# Altium schematic symbol library MI_Personal.SchLib: 995 symbols (part 5 of 12)
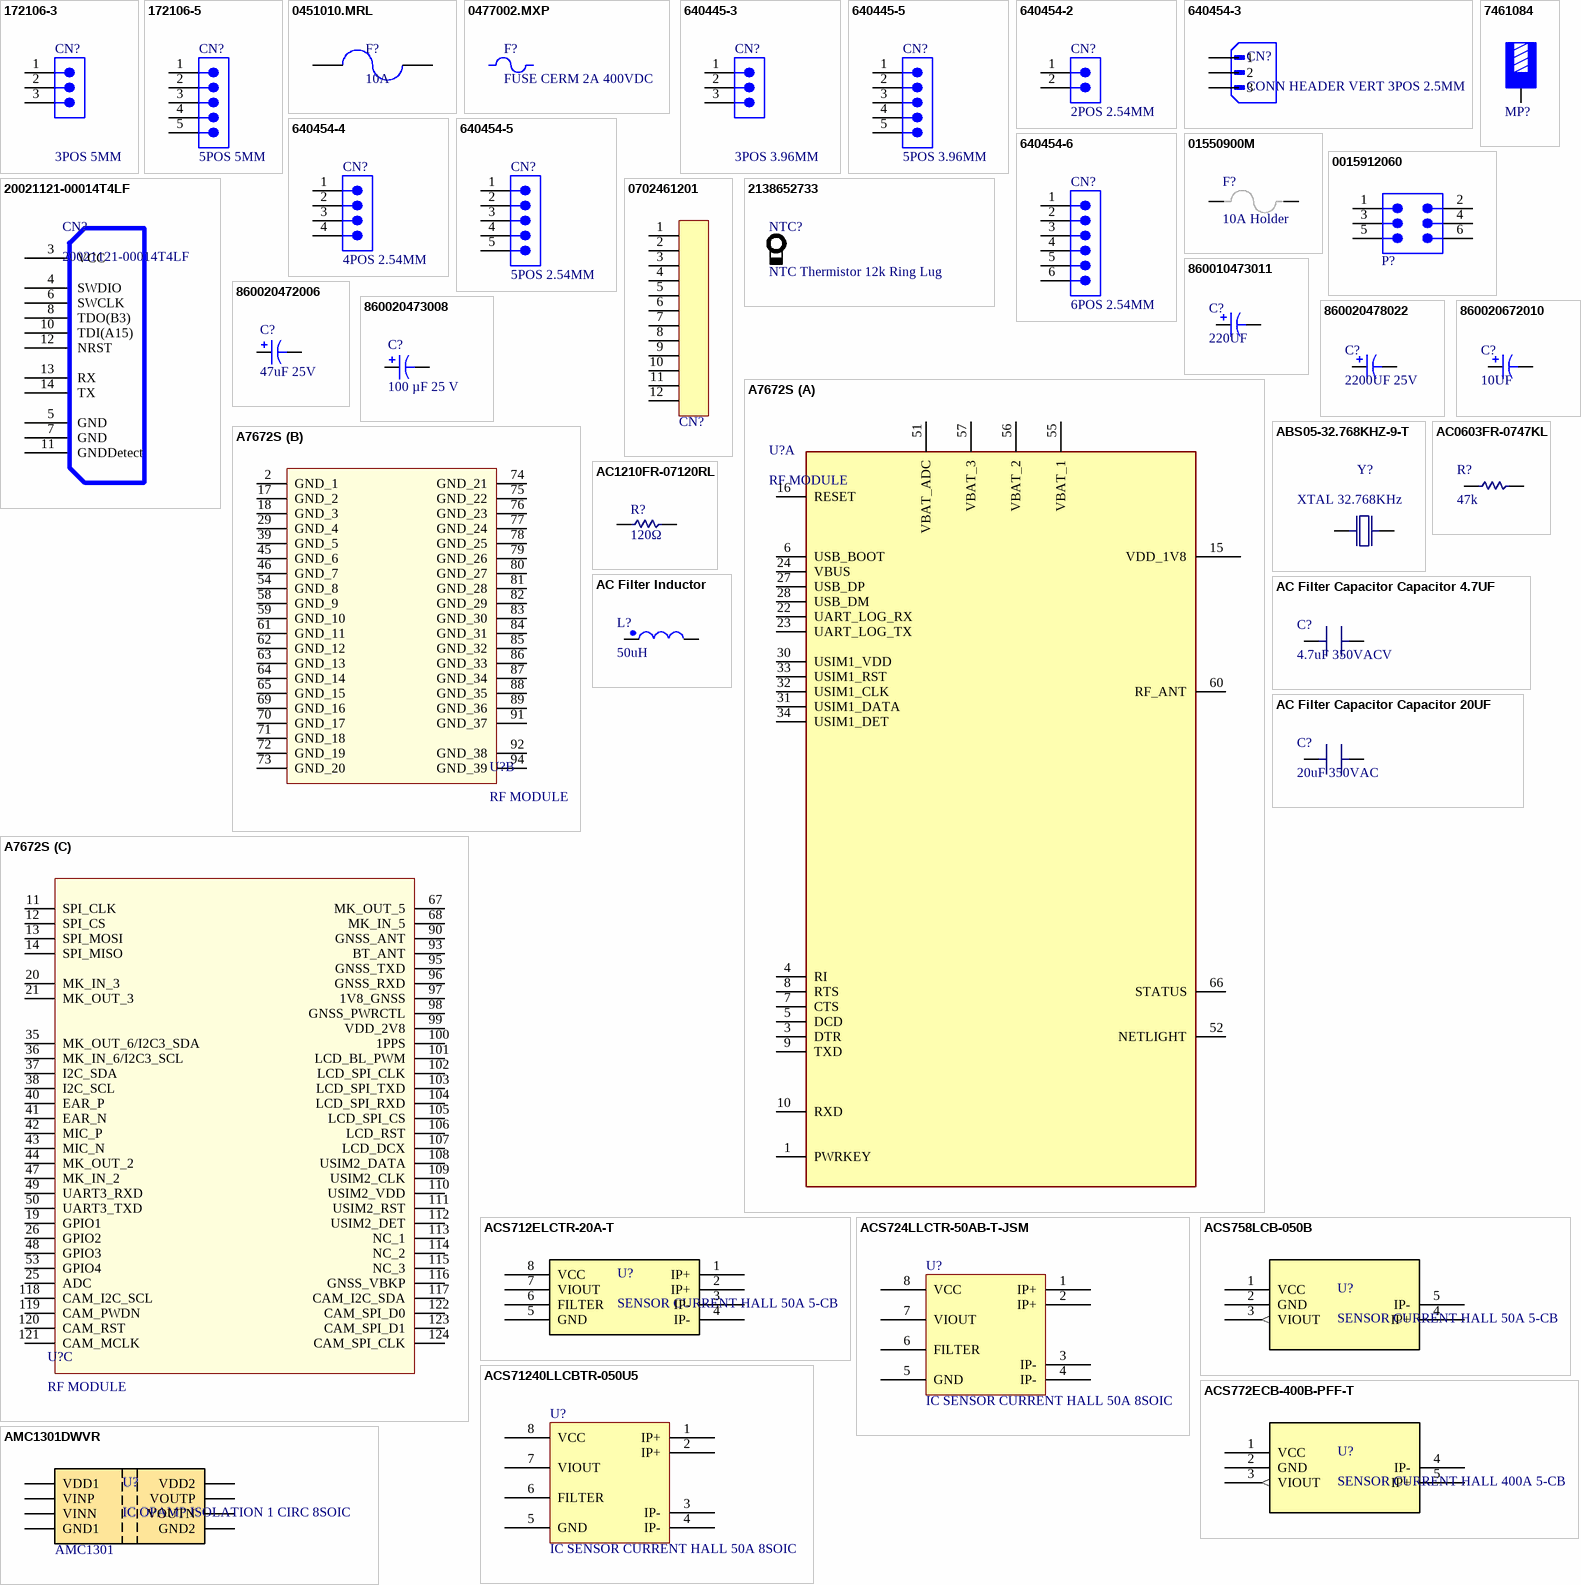
[diagram p31: symbols 172106-3 to AMC1301DWVR]

## A7672S
designator U?, comment RF MODULE
RF MODULE LTE Cat 1 Module On Module 10Mbps 700MHz/800MHz/900MHz/1700MHz/1800MHz/1900MHz/2100MHz 33dBm 3.4V to 4.2V -109dBm; Supplier 2: WORLDWAY; Supplier Part Number 2: A7672S
footprint A7672S
part A pins: 1 PWRKEY, 3 DTR, 4 RI, 5 DCD, 6 USB_BOOT, 7 CTS, 8 RTS, 9 TXD, 10 RXD, 15 VDD_1V8, 16 RESET, 22 UART_LOG_RX, 23 UART_LOG_TX, 24 VBUS, 27 USB_DP, 28 USB_DM, 30 USIM1_VDD, 31 USIM1_DATA, 32 USIM1_CLK, 33 USIM1_RST, 34 USIM1_DET, 51 VBAT_ADC, 52 NETLIGHT, 55 VBAT_1, 56 VBAT_2, 57 VBAT_3, 60 RF_ANT, 66 STATUS
part B pins: 2 GND_1, 17 GND_2, 18 GND_3, 29 GND_4, 39 GND_5, 45 GND_6, 46 GND_7, 54 GND_8, 58 GND_9, 59 GND_10, 61 GND_11, 62 GND_12, 63 GND_13, 64 GND_14, 65 GND_15, 69 GND_16, 70 GND_17, 71 GND_18, 72 GND_19, 73 GND_20, 74 GND_21, 75 GND_22, 76 GND_23, 77 GND_24, 78 GND_25, 79 GND_26, 80 GND_27, 81 GND_28, 82 GND_29, 83 GND_30, 84 GND_31, 85 GND_32, 86 GND_33, 87 GND_34, 88 GND_35, 89 GND_36, 91 GND_37, 92 GND_38, 94 GND_39
part C pins: 11 SPI_CLK, 12 SPI_CS, 13 SPI_MOSI, 14 SPI_MISO, 19 GPIO1, 20 MK_IN_3, 21 MK_OUT_3, 25 ADC, 26 GPIO2, 35 MK_OUT_6/I2C3_SDA, 36 MK_IN_6/I2C3_SCL, 37 I2C_SDA, 38 I2C_SCL, 40 EAR_P, 41 EAR_N, 42 MIC_P, 43 MIC_N, 44 MK_OUT_2, 47 MK_IN_2, 48 GPIO3, 49 UART3_RXD, 50 UART3_TXD, 53 GPIO4, 67 MK_OUT_5, 68 MK_IN_5, 90 GNSS_ANT, 93 BT_ANT, 95 GNSS_TXD, 96 GNSS_RXD, 97 1V8_GNSS, 98 GNSS_PWRCTL, 99 VDD_2V8, 100 1PPS, 101 LCD_BL_PWM, 102 LCD_SPI_CLK, 103 LCD_SPI_TXD, 104 LCD_SPI_RXD, 105 LCD_SPI_CS, 106 LCD_RST, 107 LCD_DCX, 108 USIM2_DATA, 109 USIM2_CLK, 110 USIM2_VDD, 111 USIM2_RST, 112 USIM2_DET, 113 NC_1, 114 NC_2, 115 NC_3, 116 GNSS_VBKP, 117 CAM_I2C_SDA, 118 CAM_I2C_SCL, 119 CAM_PWDN, 120 CAM_RST, 121 CAM_MCLK, 122 CAM_SPI_D0, 123 CAM_SPI_D1, 124 CAM_SPI_CLK

## ABS05-32.768KHZ-9-T
designator Y?, comment XTAL 32.768KHz
CRYSTAL 32.7680KHZ 9PF SMD 1610; Supplier 1: DigiKey; Supplier Part Number 1: 535-ABS05-32.768KHZ-9-TCT-ND; Supplier 2: LCSC; Supplier Part Number 2: C596929
footprint OSC: 1610
pins: 1 XTAL1, 2 XTAL2

## AC0603FR-0747KL
designator R?, comment 47k
RES SMD 47K OHM 1% 1/10W 0603; Supplier 1: DigiKey; Supplier Part Number 1: YAG3610CT-ND; Supplier 2: LCSC; Supplier Part Number 2: C111134; Supplier 3: Digikey; Supplier Part Number 3: P47KGCT-ND; Supplier 4: LCSC; Supplier Part Number 4: C278642
footprint RES 0603_1608 (Chip Resistor, 2-Leads, Body 1.60x0.80mm, IPC Medium Density)
pins: 1 A, 2 B

## AC1210FR-07120RL
designator R?, comment 120Ω
RES SMD 120 OHM 1% 1/2W 1210; Supplier 1: DigiKey; Supplier Part Number 1: YAG5428CT-ND; Supplier 2: LCSC; Supplier Part Number 2: C2974062
footprint RES 1210_3225 (Chip Resistor, 2-Leads, Body 3.1x2.6mm, IPC Medium Density)
pins: 1 A, 2 B

## AC Filter Capacitor Capacitor 4.7UF
designator C?, comment 4.7uF 350VACV
CAP FILM 4.7uF 10% 350VACV; Supplier 1: Made In China; Supplier Part Number 1: https://hongfarad168.en.made-in-china.com/product/PfNrvRSYhXWt/China-High-Performance-Dry-Type-DC-Link-Capacitors-for-PCB-Applications-Dpb-Power-Capacitor.html; Supplier Part Number 2: https://crecapacitor.en.made-in-china.com/product/fEgpAGRTWBcY/China-Best-Price-AC-Filter-Capacitor-for-PCB-Mount.html
footprint Custom 4.7UF 350VAC FILM CAP
pins: 1 A, 2 B

## AC Filter Capacitor Capacitor 20UF
designator C?, comment 20uF 350VAC
CAP FILM 20uF 350VAC; Supplier 1: Made In China; Supplier Part Number 1: https://crecapacitor.en.made-in-china.com/product/fEgpAGRTWBcY/China-Best-Price-AC-Filter-Capacitor-for-PCB-Mount.html
footprint Custom 20UF 350VAC FILM CAP
pins: 1 A, 2 B

## AC Filter Inductor
designator L?, comment 50uH
FIXED IND 50UH 160A 1kHz
footprint AC FILTER INDUCTOR
pins: 1 A, 2 B

## ACS712ELCTR-20A-T
designator U?, comment SENSOR CURRENT HALL 50A 5-CB
IC Current Sensor 20A 1 Channel Hall Effect Bidirectional; Supplier 1: MAKERS; Supplier Part Number 1: https://makerselectronics.com/product/acs712-20a-20a-current-sensor-smd-ic-soic-8; ComponentLink1Description: MAKERS; ComponentLink1URL: https://makerselectronics.com/product/acs712-20a-20a-current-sensor-smd-ic-soic-8
footprint SOIC-8 (SOIC - 1.75 mm max height / SMALL OUTLINE INTEGRATED CIRCUIT)
pins: 1 IP+, 2 IP+, 3 IP-, 4 IP-, 5 GND (power), 6 FILTER, 7 VIOUT (power), 8 VCC (power)

## ACS724LLCTR-50AB-T-JSM
designator U?, comment IC SENSOR CURRENT HALL 50A 8SOIC
IC Current Sensor 50A 40mV/A Bidirectional 8-SOIC (0.154", 3.90mm Width); Supplier 1: LCSC; Supplier Part Number 1: C20606860
footprint SOIC 8 ACS71240
pins: 1 IP+, 2 IP+, 3 IP-, 4 IP-, 5 GND, 6 FILTER, 7 VIOUT, 8 VCC

## ACS758LCB-050B
designator U?, comment SENSOR CURRENT HALL 50A 5-CB
IC Current Sensor 50A 1 Channel Hall Effect Bidirectional 5-CB Formed Leads, PFF; Supplier 1: RAM; Supplier Part Number 1: https://www.ram-e-shop.com/shop/acs758lcb-050b-acs758lcb-050b-ac-current-sensor-50a-7011; ComponentLink1Description: RAM; ComponentLink1URL: https://www.ram-e-shop.com/shop/acs758lcb-050b-acs758lcb-050b-ac-current-sensor-50a-7011
footprint ACS772_PFF_ALM
pins: 1 VCC (power), 2 GND (power), 3 VIOUT (out), 4 IP+, 5 IP-

## ACS772ECB-400B-PFF-T
designator U?, comment SENSOR CURRENT HALL 400A 5-CB
IC Current Sensor 400A 1 Channel Hall Effect Bidirectional 5-CB Formed Leads, PFF; Supplier 1: Digikey; Supplier Part Number 1: 620-ACS772ECB-400B-PFF-T-ND; Supplier 2: Mouser; Supplier Part Number 2: 250-772ECB400BPFFT; ComponentLink1Description: DIGIKEY; ComponentLink1URL: https://www.digikey.com/en/products/detail/allegro-microsystems/ACS772ECB-400B-PFF-T/13979025?s=N4IgTCBcDaIIIGEDKB2FYCiCBCBaALAAyF4AKAYubgCogC6AvkA; ComponentLink2Description: LCSC; ComponentLink2URL: https://www.aztechwire.com/submit-an-rfq.html?part_no=ACS772ECB-400B-PFF-T&utm_source=octopart; Supplier 3: AZTECH; Supplier Part Number 3: https://www.aztechwire.com/products/allegro-microsystems/acs772ecb-400b-pff-t?p=679b3c7465292d2c08adb6e8; Supplier 4: LCSC; Supplier Part Number 4: C44606309
footprint ACS772_PFF_ALM
pins: 1 VCC (power), 2 GND (power), 3 VIOUT (out), 4 IP-, 5 IP+

## ACS71240LLCBTR-050U5
designator U?, comment IC SENSOR CURRENT HALL 50A 8SOIC
IC Current Sensor 50A 1 Channel Hall Effect, Open Loop Unidirectional 8-SOIC (0.154", 3.90mm Width); Supplier 1: Digikey; Supplier Part Number 1: 620-2054-1-ND; Supplier 2: LCSC; Supplier Part Number 2: C2654898; Supplier 3: Mouser; Supplier Part Number 3: 250-71240LLCBTR050U5
footprint SOIC 8 ACS71240
pins: 1 IP+, 2 IP+, 3 IP-, 4 IP-, 5 GND, 6 FILTER, 7 VIOUT, 8 VCC

## AMC1301DWVR
designator U?, comment IC OPAMP ISOLATION 1 CIRC 8SOIC
IC Isolation Amplifier 1 Circuit Differential 8-SOIC; Supplier 1: DigiKey; Supplier Part Number 1: 296-44577-1-ND; Supplier 2: LCSC; Supplier Part Number 2: C190273
footprint SOIC8 AMC1200 TI
pins: 1 VDD1, 2 VINP, 3 VINN, 4 GND1, 5 GND2, 6 VOUTN, 7 VOUTP, 8 VDD2
text: AMC1301

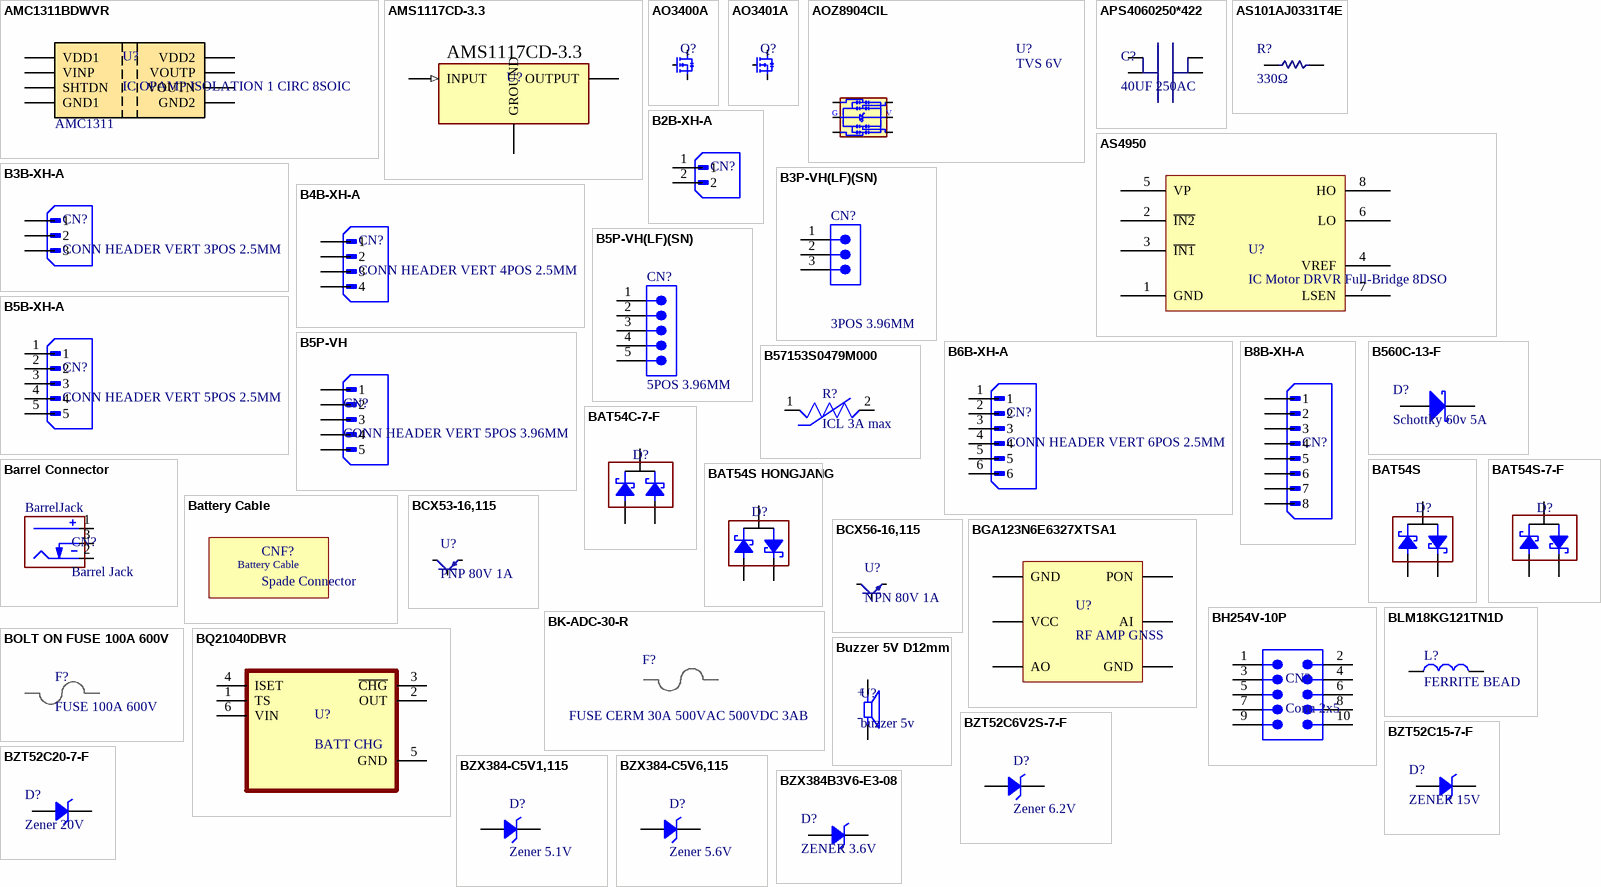
[diagram p7: symbols AMC1311BDWVR to BZX384B3V6-E3-08]

## AMC1311BDWVR
designator U?, comment IC OPAMP ISOLATION 1 CIRC 8SOIC
IC Isolation Amplifier 1 Circuit Differential 8-SOIC; Supplier 1: DigiKey; Supplier Part Number 1: 296-49549-1-ND; Supplier 2: LCSC; Supplier Part Number 2: C783598
footprint SOIC8 AMC1200 TI
pins: 1 VDD1, 2 VINP, 3 SHTDN, 4 GND1, 5 GND2, 6 VOUTN, 7 VOUTP, 8 VDD2
text: AMC1311

## AMS1117CD-3.3
designator U?, comment IC REG LINEAR 3.3V 1A TO-252  (value not drawn)
IC REG LINEAR 3.3V 1.5A TO-252; Supplier 1: MAKERS; Supplier Part Number 1: https://makerselectronics.com/product/ams1117cd-3-3-smd-fixed-15v-1a-3-3v3-3v-to-252-dropour-voltage-regulators; ComponentLink1Description: MAKERS; ComponentLink1URL: https://makerselectronics.com/product/ams1117cd-3-3-smd-fixed-15v-1a-3-3v3-3v-to-252-dropour-voltage-regulators
footprint DPACK
pins: 1 GROUND (power), 2 INPUT (in), 3 OUTPUT (power)

## AO3400A
designator Q?, comment NMOS 30V 5.7A  (value not drawn)
MOSFET N-CH 30V 5.7A SOT23-3L; Supplier 1: DigiKey; Supplier Part Number 1: 785-1000-1-ND; Supplier 2: LCSC; Supplier Part Number 2: C20917
footprint SOT23-3 (SOT23-3, BAT54, DIODES INC)
pins: 1 GATE, 2 SOURCE, 3 DRAIN

## AO3401A
designator Q?, comment PMOS 30 4A  (value not drawn)
MOSFET P-CH 30V 4A SOT23-3L; Supplier 1: DigiKey; Supplier Part Number 1: 785-1001-1-ND; Supplier 2: LCSC; Supplier Part Number 2: C15127
footprint SOT23-3 (SOT23-3, BAT54, DIODES INC)
pins: 1 GATE, 2 SOURCE, 3 DRAIN

## AOZ8904CIL
designator U?, comment TVS 6V
DIODE TVS 5.25VWM 6VC SOT23-6; Supplier 1: LCSC; Supplier Part Number 1: C2649893
footprint SOT23-6 (Footprint not found)
pins: 1, 2, 3, 4, 5, 6
text: G; V

## APS4060250*422
designator C?, comment 40UF 250AC
CAP FILM 40UF 250VAC; Supplier 1: Made In China; Supplier Part Number 1: https://crecapacitor.en.made-in-china.com/product/fEgpAGRTWBcY/China-Best-Price-AC-Filter-Capacitor-for-PCB-Mount.html
footprint APS4060250*422 (FILM CAP 4 PIN)
pins: 1 A, 2 B, 3 A, 4 B

## AS101AJ0331T4E
designator R?, comment 330Ω
RES SMD 330Ω OHM 5% 1.5W 2010; Supplier 2: LCSC; Supplier Part Number 2: C2770371
footprint RES 2010_3613 (Chip Resistor, 2-Leads, Body 5.00x2.54mm, IPC Medium Density)
pins: 1 A, 2 B

## AS4950
designator U?, comment IC Motor DRVR Full-Bridge 8DSO
Supplier 1: UGE; Supplier Part Number 1: https://uge-one.com/product/at4950-full-bridge-dmos-pwm-dc-motor-driver-controller-2a-30v-esop8/; ComponentLink1Description: UGE; ComponentLink1URL: https://uge-one.com/product/at4950-full-bridge-dmos-pwm-dc-motor-driver-controller-2a-30v-esop8/
footprint SOP-8 Thermal Pad AS4950 (SOP, 8-Leads, Body 4.90x3.90mm, Pitch 1.27mm, Thermal Pad 2.28x2.28mm, IPC Medium Density)
pins: 1 GND, 2 ~{IN2}, 3 ~{IN1}, 4 VREF, 5 VP "V12", 6 LO, 7 LSEN, 8 HO

## B2B-XH-A
designator CN?, comment CONN HEADER VERT 2POS 2.5MM  (value not drawn)
Supplier 1: Digikey; Supplier Part Number 1: 455-B2B-XH-A-ND; Supplier 2: LCSC; Supplier Part Number 2: C158012; Supplier 3: Digikey; Supplier Part Number 3: 2057-25SH-B-02-TS-ND; Supplier 4: LCSC; Supplier Part Number 4: C20079
footprint JST_B2B-XH-A
pins: 1, 2

## B3B-XH-A
designator CN?, comment CONN HEADER VERT 3POS 2.5MM
Supplier 1: Digikey; Supplier Part Number 1: 455-2248-ND; Supplier 2: LCSC; Supplier Part Number 2: C144394; Supplier 3: Digikey; Supplier Part Number 3: 2057-25SH-B-03-TS-ND; Supplier 4: LCSC; Supplier Part Number 4: C2908601
footprint JST_B3B-XH-A
pins: 1, 2, 3

## B3P-VH(LF)(SN)
designator CN?, comment 3POS 3.96MM
CONN HEADER VERT 3POS 3.96MM; Supplier 1: LCSC; Supplier Part Number 1: C160316
footprint JST_B3P-VH
pins: 1, 2, 3

## B4B-XH-A
designator CN?, comment CONN HEADER VERT 4POS 2.5MM
Supplier 1: Digikey; Supplier Part Number 1: 455-B4B-XH-A-ND; Supplier 2: LCSC; Supplier Part Number 2: C144395; Supplier 3: Digikey; Supplier Part Number 3: 2057-25SH-B-04-TS-ND; Supplier 4: LCSC; Supplier Part Number 4: C2908602
footprint JST_B4B-XH-A
pins: 1, 2, 3, 4

## B5B-XH-A
designator CN?, comment CONN HEADER VERT 5POS 2.5MM
Connector Header Through Hole 5 position 0.098 (2.50mm); ComponentLink1Description: DIGIKEY; ComponentLink1URL: https://www.digikey.com/en/products/detail/jst-sales-america-inc/B5B-XH-A/1530483; ComponentLink2Description: LCSC; ComponentLink2URL: https://www.lcsc.com/product-detail/Wire-To-Board-Connector_JST-B5B-XH-AM-LF-SN_C161872.html; Supplier 1: Digikey; Supplier Part Number 1: 455-B5B-XH-A-ND; Supplier 2: LCSC; Supplier Part Number 2: C161872; Supplier 3: LCSC; Supplier Part Number 3: C2318; Supplier 4: LCSC; Supplier Part Number 4: C2908603
footprint JST_B5B-XH-A
pins: 1, 2, 3, 4, 5

## B5P-VH
designator CN?, comment CONN HEADER VERT 5POS 3.96MM
Supplier 1: Digikey; Supplier Part Number 1: 455-B5P-VH-ND; Supplier 2: LCSC; Supplier Part Number 2: C160318; Supplier 3: Digikey; Supplier Part Number 3: WM9819-ND; Supplier 4: LCSC; Supplier Part Number 4: C19170942
footprint JST_B5P-VH
pins: 1, 2, 3, 4, 5

## B5P-VH(LF)(SN)
designator CN?, comment 5POS 3.96MM
CONN HEADER VERT 5POS 3.96MM; Supplier 1: LCSC; Supplier Part Number 1: C160318
footprint JST_B5P-VH
pins: 1, 2, 3, 4, 5

## B6B-XH-A
designator CN?, comment CONN HEADER VERT 6POS 2.5MM
Supplier 1: Digikey; Supplier Part Number 1: 455-B6B-XH-A-ND; Supplier 2: LCSC; Supplier Part Number 2: C144397; Supplier 3: Digikey; Supplier Part Number 3: 2057-25SH-B-06-TS-ND; Supplier 4: LCSC; Supplier Part Number 4: C2908604
footprint JST_B6B-XH-A
pins: 1, 2, 3, 4, 5, 6

## B8B-XH-A
designator CN?, comment CONN HEADER VERT 8POS 2.5MM  (value not drawn)
Supplier 1: Digikey; Supplier Part Number 1: 455-B8B-XH-A-ND; Supplier 2: LCSC; Supplier Part Number 2: C157972; Supplier 3: Digikey; Supplier Part Number 3: 2057-25SH-B-08-TS-ND; Supplier 4: LCSC; Supplier Part Number 4: C18077839
footprint JST_B8B-XH-A
pins: 1, 2, 3, 4, 5, 6, 7, 8

## B560C-13-F
designator D?, comment Schottky 60v 5A
DIODE SCHOTTKY 60V 5A SMC; Supplier 1: Digikey; Supplier Part Number 1: B560C-FDICT-ND; Supplier 2: LCSC; Supplier Part Number 2: C85100; Supplier 3: Digikey; Supplier Part Number 3: 497-8487-1-ND; Supplier 4: LCSC; Supplier Part Number 4: C6807784
footprint DO214AB SMC (Molded Diode, 2-Leads, Body 6.85x5.90mm, IPC Medium Density)
pins: 1 A, 2 K

## B57153S0479M000
designator R?, comment ICL 3A max
RES ICL 4.7Ω 3A max NTC P=5mm; Supplier 1: LCSC; Supplier Part Number 1: C3760689; ComponentLink1Description: UGE; ComponentLink1URL: https://uge-one.com/product/ntc-inrush-current-limiting-thermistor-10d-5/
footprint NTC CURRENT LIMITING P=5mm
pins: 1, 2

## Barrel Connector
designator CN?, comment Barrel Jack
CONN BARREL JACK; Supplier 1: MAKERS; Supplier Part Number 1: https://makerselectronics.com/product/dc-power-jack-female-socket-connector-5-5x2-1mm; ComponentLink1Description: MAKERS; ComponentLink1URL: https://makerselectronics.com/product/dc-power-jack-female-socket-connector-5-5x2-1mm
footprint GCT_DCJ200-10-A-XX-K_REVA
footprint GCT_DCJ250-10-A-XX-X_REVA
pins: 1 Centre (power), 2 Outer (power), 3 SW (power)
text: BarrelJack

## BAT54C-7-F
designator D?, comment Diode Array 1 Pair Common Cathode 30 V 200mA Surface Mount TO-236-3, SC-59, SOT-23-3  (value not drawn)
DIODE ARR SCHOTT 30V 200MA SOT23; Supplier 1: DigiKey; Supplier Part Number 1: BAT54C-FDICT-ND; Supplier 2: LCSC; Supplier Part Number 2: C134405; Supplier 3: Digikey; Supplier Part Number 3: 1727-2902-1-ND; Supplier 4: LCSC; Supplier Part Number 4: C37704
footprint SOT23-3
pins: 1 A1, 2 A2, 3 C

## BAT54S
designator D?, comment Diode Array 1 Pair Common Cathode 30 V 200mA Surface Mount TO-236-3, SC-59, SOT-23-3  (value not drawn)
DIODE ARR SCHOTT 30V 200MA SOT23; Supplier 1: MAKERS; Supplier Part Number 1: https://makerselectronics.com/product/bat54s-kl4-30v-dual-1v100ma-100ma-sot-23-schottky-barrier-diodes-sbd-smd; ComponentLink1Description: MAKERS; ComponentLink1URL: https://makerselectronics.com/product/bat54s-kl4-30v-dual-1v100ma-100ma-sot-23-schottky-barrier-diodes-sbd-smd
footprint SOT23-3
pins: 1 A1, 2 A2, 3 C

## BAT54S HONGJANG
designator D?, comment Diode Array 1 Pair Common Cathode 30 V 200mA Surface Mount TO-236-3, SC-59, SOT-23-3  (value not drawn)
DIODE JLC ARR SCHOTT 30V 200MA SOT23; Supplier 1: LCSC; Supplier Part Number 1: C7420333
footprint SOT23-3
pins: 1 A1, 2 A2, 3 C

## BAT54S-7-F
designator D?, comment Diode Array 1 Pair Common Cathode 30 V 200mA Surface Mount TO-236-3, SC-59, SOT-23-3  (value not drawn)
DIODE ARR SCHOTT 30V 200MA SOT23; Supplier 1: Digikey; Supplier Part Number 1: BAT54S-FDIDKR-ND; Supplier 2: LCSC; Supplier Part Number 2: C83574; Supplier 3: Digikey; Supplier Part Number 3: 1727-2904-1-ND; Supplier 4: LCSC; Supplier Part Number 4: C47546
footprint SOT23-3
pins: 1 A1, 2 A2, 3 C

## Battery Cable
designator CNF?, comment Spade Connector  (mechanical)
MECH Battery Connection Cable 10AWG (Spade Type Connector Female on Both-Side); Supplier 1: Makers; Supplier Part Number 1: https://makerselectronics.com/product/battery-connection-cable-10awg-spade-type-connector-female-on-both-side; ComponentLink1Description: Makers; ComponentLink1URL: https://makerselectronics.com/product/battery-connection-cable-10awg-spade-type-connector-female-on-both-side

## BCX53-16,115
designator U?, comment PNP 80V 1A
TRANS PNP 80V 1A SOT-89; Supplier 1: Digikey; Supplier Part Number 1: 1727-2929-1-ND; Supplier 2: LCSC; Supplier Part Number 2: C47787; Supplier 3: Digikey; Supplier Part Number 3: BCX5316CT-ND; Supplier 4: LCSC; Supplier Part Number 4: C110489
footprint SOT89 (SOT89, 3-Leads, Body 4.50x2.50mm, Pitch 1.50mm, Lead Span 4.1mm, IPC Medium Density)
pins: 1 B, 2 E, 3 C

## BCX56-16,115
designator U?, comment NPN 80V 1A
TRANS NPN 80V 1A SOT-89; Supplier 1: Digikey; Supplier Part Number 1: 1727-2930-1-ND; Supplier 2: LCSC; Supplier Part Number 2: C100026; Supplier 3: Digikey; Supplier Part Number 3: BCX5616QTADICT-ND; Supplier 4: LCSC; Supplier Part Number 4: C526478
footprint SOT89 (SOT89, 3-Leads, Body 4.50x2.50mm, Pitch 1.50mm, Lead Span 4.1mm, IPC Medium Density)
pins: 1 B, 2 E, 3 C

## BGA123N6E6327XTSA1
designator U?, comment RF AMP GNSS
RF IC AMP Beidou, Galileo, GLONASS, GPS 1.55GHz ~ 1.615GHz PG-TSNP-6-2; Supplier 1: WORLDWAY; Supplier Part Number 1: BGA123N6E6327XTSA1; Supplier 2: LCSC; Supplier Part Number 2: C3191830
footprint PG-TSNP-6-2
pins: 1 GND, 2 VCC, 3 AO, 4 GND, 5 AI, 6 PON

## BH254V-10P
designator CN?, comment Conn 2x5
CONN HEADER VERT 10POS 2.5MM IDC; Supplier 1: LCSC; Supplier Part Number 1: C492442; ComponentLink1Description: RAM; ComponentLink1URL: https://www.ram-e-shop.com/shop/fc10-pcb-idc10-male-polarized-fc10-pcb-5991
footprint IDC 2X5 (10 pins, straight, gold plating)
pins: 1, 2, 3, 4, 5, 6, 7, 8, 9, 10

## BK-ADC-30-R
designator F?, comment FUSE CERM 30A 500VAC 500VDC 3AB  (mechanical)
Supplier 1: Digikey; Supplier Part Number 1: 283-BK-ADC-30-R-ND; Supplier 2: Mouser; Supplier Part Number 2: 576-0505030.MXP; Supplier 3: Made In China; Supplier Part Number 3: https://frsidq.en.made-in-china.com/product/zdoTGaijghAD/China-DC-Energy-Storage-Fast-Fuse-with-Fuse-Base-for-Low-Current-Protection-Rated-500V-2A-100A.html?pv_id=1ihutq0pbfaf&faw_id=1ihutqc4l824

## BLM18KG121TN1D
designator L?, comment FERRITE BEAD
FERRITE BEAD 120 OHM 0603 1LN; Supplier 1: Digikey; Supplier Part Number 1: 490-5254-1-ND; Supplier 2: LCSC; Supplier Part Number 2: C85831; Supplier 3: Digikey; Supplier Part Number 3: 490-3996-1-ND; Supplier 4: LCSC; Supplier Part Number 4: C113030
footprint FER 0603_1608 (Chip Ferrite, 2-Leads, Body 1.60x0.80mm, IPC Medium Density)
pins: 1 A, 2 B

## BOLT ON FUSE 100A 600V
designator F?, comment FUSE 100A 600V  (mechanical)

## BQ21040DBVR
designator U?, comment BATT CHG
IC BATT CHG LI-ION 1CELL SOT23-6; Supplier 1: DigiKey; Supplier Part Number 1: 296-47315-1-ND; Supplier 2: LCSC; Supplier Part Number 2: C202311
footprint SOT23-6 TI
pins: 1 TS, 2 OUT, 3 ~{CHG}, 4 ISET, 5 GND, 6 VIN

## Buzzer 5V D12mm
designator U?, comment buzzer 5v
IC BUZZER MAGNETIC 5V 12.00MM TH 85dB; Supplier 1: DigiKey; Supplier Part Number 1: 433-1028-ND; Supplier 2: LCSC; Supplier Part Number 2: C96093; ComponentLink1Description: MAKERS; ComponentLink1URL: https://makerselectronics.com/product/magnetic-buzzer-5v-12mm-2-pin/
footprint BUZZER D12mm
pins: N, P
text: +; -

## BZT52C6V2S-7-F
designator D?, comment Zener 6.2V
DIODE ZENER 6.2V 200MW SOD323; Supplier 1: Digikey; Supplier Part Number 1: BZT52C6V2S-FDICT-ND; Supplier 2: LCSC; Supplier Part Number 2: C177018; Supplier 3: Digikey; Supplier Part Number 3: MM3Z6V2ST1GOSCT-ND; Supplier 4: LCSC; Supplier Part Number 4: C603321
footprint SOD 323 (SOD, 2-Leads, Body 1.25x2.50mm, IPC Medium Density)
pins: 1, 2

## BZT52C15-7-F
designator D?, comment ZENER 15V
DIODE ZENER 15V 500MW SOD123; Supplier 1: Digikey; Supplier Part Number 1: BZT52C15-FDICT-ND; Supplier 2: LCSC; Supplier Part Number 2: C177014; Supplier 3: Digikey; Supplier Part Number 3: MMSZ5245B-TPMSCT-ND; Supplier 4: LCSC; Supplier Part Number 4: C727006
footprint SOD-123 (SOD, 2-Leads, Body 1.55x3.70mm, IPC Medium Density)
pins: 1, 2

## BZT52C20-7-F
designator D?, comment Zener 20V
DIODE ZENER 20V 500MW SOD123; Supplier 1: Digikey; Supplier Part Number 1: BZT52C20-FDICT-ND; Supplier 2: LCSC; Supplier Part Number 2: C260890; Supplier 3: Digikey; Supplier Part Number 3: MMSZ5250BT1GOSCT-ND; Supplier 4: LCSC; Supplier Part Number 4: C94386
footprint SOD-123 (SOD, 2-Leads, Body 1.55x3.70mm, IPC Medium Density)
pins: 1, 2

## BZX384-C5V1,115
designator D?, comment Zener 5.1V
DIODE ZENER  5.1 V 300 mW ±5% Surface Mount SOD-323; Supplier 1: Digikey; Supplier Part Number 1: 1727-6230-1-ND; Supplier 2: LCSC; Supplier Part Number 2: C72346; Supplier 3: Digikey; Supplier Part Number 3: MM3Z5V1ST1GOSCT-ND; Supplier 4: LCSC; Supplier Part Number 4: C236206
footprint SOD 323 (SOD, 2-Leads, Body 1.25x2.50mm, IPC Medium Density)
pins: 1, 2

## BZX384-C5V6,115
designator D?, comment Zener 5.6V
DIODE ZENER 5.6V 300MW SOD323; Supplier 1: Digikey; Supplier Part Number 1: 1727-4993-1-ND; Supplier 2: LCSC; Supplier Part Number 2: C454977; Supplier 3: Digikey; Supplier Part Number 3: MM3Z5V6ST1GOSCT-ND; Supplier 4: LCSC; Supplier Part Number 4: C193904
footprint SOD-323 (SOD, 2-Leads, Body 1.25x2.50mm, IPC Medium Density)
pins: 1, 2

## BZX384B3V6-E3-08
designator D?, comment ZENER 3.6V
DIODE ZENER 3.6V 200MW SOD323; Supplier 1: Digikey; Supplier Part Number 1: BZX384B3V6-E3-08GICT-ND; Supplier 2: LCSC; Supplier Part Number 2: C5358847; Supplier 3: Digikey; Supplier Part Number 3: BZT52C3V6S-FDICT-ND; Supplier 4: LCSC; Supplier Part Number 4: C306657
footprint SOD 323 (SOD, 2-Leads, Body 1.25x2.50mm, IPC Medium Density)
pins: 1, 2

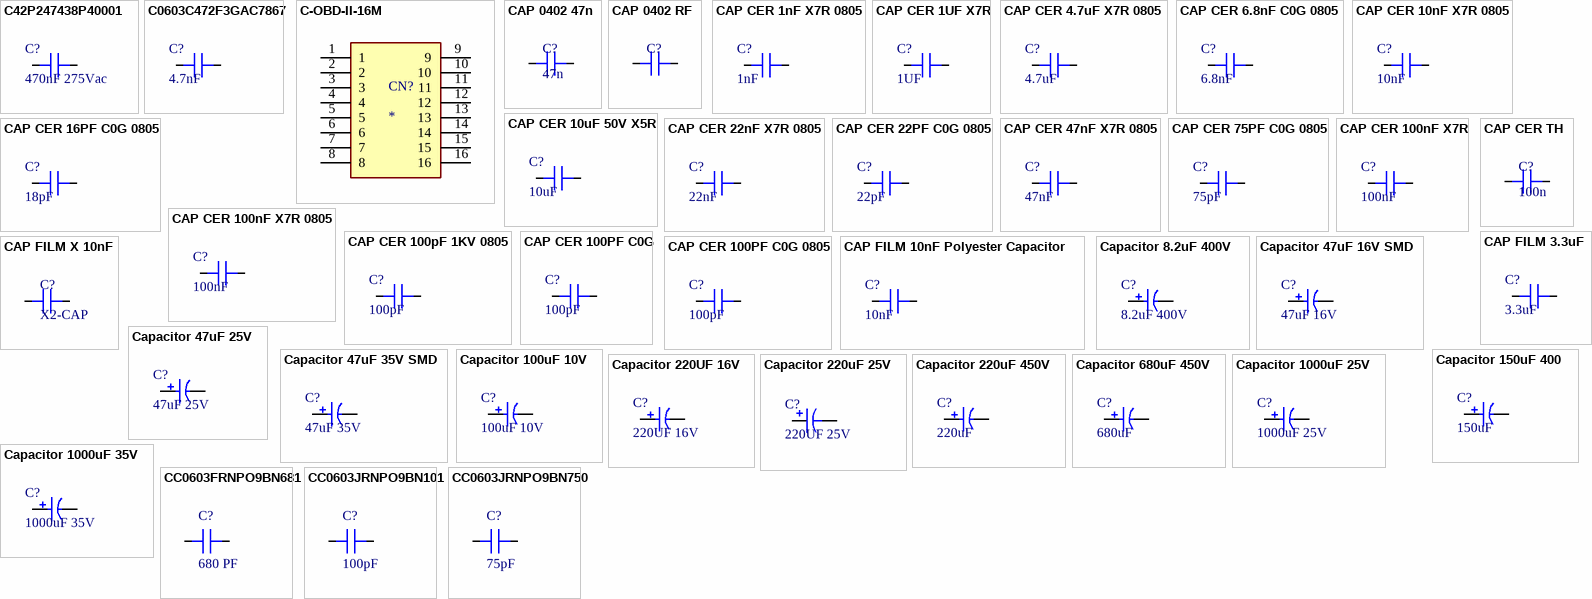
[diagram p8: symbols C42P247438P40001 to CC0603JRNPO9BN750]

## C42P247438P40001
designator C?, comment 470nF 275Vac
CAP FILM SAFETY 470nF ±10% 275V TH; Supplier 1: LCSC; Supplier Part Number 1: C46638871
footprint CAP FILM P = 10mm 13*15*8
pins: 1, 2

## C0603C472F3GAC7867
designator C?, comment 4.7nF
CAP CER 4700PF 25V C0G/NP0 0603  ±1%; Supplier 1: Digikey; Supplier Part Number 1: 399-C0603C472F3GACTUCT-ND; Supplier 2: LCSC; Supplier Part Number 2: C695387; Supplier 3: Digikey; Supplier Part Number 3: 490-9669-1-ND; Supplier 4: LCSC; Supplier Part Number 4: C85980
footprint CAP 0603_1608 (Chip Capacitor, 2-Leads, Body 1.60x0.80mm, IPC Medium Density)
pins: 1, 2

## C-OBD-II-16M
designator CN?
CONN OBD II 16pin 90 Degree Angle Male Plug Connector
footprint OBD-II-16M
pins: 1, 2, 3, 4, 5, 6, 7, 8, 9, 10, 11, 12, 13, 14, 15, 16

## CAP 0402 47n
designator C?, comment 47n
CAP CER 0.047UF 50V X7R 0402
footprint CAP 0402_1005 RF (Chip Capacitor, 2-Leads, Body 1.02x0.51mm, IPC High Density)
pins: 1, 2

## CAP 0402 RF
designator C?
DEFAULT
footprint CAP 0402_1005 RF (Chip Capacitor, 2-Leads, Body 1.02x0.51mm, IPC High Density)
pins: 1, 2

## CAP CER 1nF X7R 0805
designator C?, comment 1nF
CAP CER 1nF X7R 0805; Supplier 1: Makers; Supplier Part Number 1: https://makerselectronics.com/product/multilayer-ceramic-capacitors-mlcc-smd-smt-1nf-%c2%b110-50v-0805/; ComponentLink1Description: Makers; ComponentLink1URL: https://makerselectronics.com/product/multilayer-ceramic-capacitors-mlcc-smd-smt-1nf-%c2%b110-50v-0805/
footprint CAP 0805_2012 (Chip Capacitor, 2-Leads, Body 2.00x1.20mm, IPC Medium Density)
pins: 1, 2

## CAP CER 1UF X7R
designator C?, comment 1UF
CAP CER 1UF X7R 1206; Supplier 1: Makers; Supplier Part Number 1: https://makerselectronics.com/product/multilayer-ceramic-capacitors-mlcc-smd-smt-1uf-%c2%b110-50v-x7r-1206; ComponentLink1Description: Makers; ComponentLink1URL: https://makerselectronics.com/product/multilayer-ceramic-capacitors-mlcc-smd-smt-1uf-%c2%b110-50v-x7r-1206
footprint CAP 1206_3216 (Chip Capacitor, 2-Leads, Body 3.25x1.60mm, IPC Medium Density)
pins: 1, 2

## CAP CER 4.7uF X7R 0805
designator C?, comment 4.7uF
CAP CER 4.7uF X7R 0805
footprint CAP 0805_2012 (Chip Capacitor, 2-Leads, Body 2.00x1.20mm, IPC Medium Density)
pins: 1, 2

## CAP CER 6.8nF C0G 0805
designator C?, comment 6.8nF
CAP CER 6.8nF C0G 0805; Supplier 1: DigiKey; Supplier Part Number 1: 490-1638-1-ND; Supplier 2: LCSC; Supplier Part Number 2: C77068
footprint CAP 0805_2012 (Chip Capacitor, 2-Leads, Body 2.00x1.20mm, IPC Medium Density)
pins: 1, 2

## CAP CER 10nF X7R 0805
designator C?, comment 10nF
CAP CER 10nF X7R 0805; Supplier 1: Makers; Supplier Part Number 1: https://makerselectronics.com/product/multilayer-ceramic-capacitors-mlcc-smd-smt-10nf-%c2%b110-50v-0805/; ComponentLink1Description: Makers; ComponentLink1URL: https://makerselectronics.com/product/multilayer-ceramic-capacitors-mlcc-smd-smt-10nf-%c2%b110-50v-0805/
footprint CAP 0805_2012 (Chip Capacitor, 2-Leads, Body 2.00x1.20mm, IPC Medium Density)
pins: 1, 2

## CAP CER 10uF 50V X5R
designator C?, comment 10uF
CAP CER 10uF 50V X5R 1206; Supplier 1: Makers; Supplier Part Number 1: https://makerselectronics.com/product/multilayer-ceramic-capacitors-mlcc-smd-smt-10uf-50v-x5r-%c2%b110-1206; ComponentLink1Description: Makers; ComponentLink1URL: https://makerselectronics.com/product/multilayer-ceramic-capacitors-mlcc-smd-smt-10uf-50v-x5r-%c2%b110-1206
footprint CAP 1206_3216 (Chip Capacitor, 2-Leads, Body 3.25x1.60mm, IPC Medium Density)
pins: 1, 2

## CAP CER 16PF C0G 0805
designator C?, comment 18pF
CAP CER 18pF C0G 0805
footprint CAP 0805_2012 (Chip Capacitor, 2-Leads, Body 2.00x1.20mm, IPC Medium Density)
pins: 1, 2

## CAP CER 22nF X7R 0805
designator C?, comment 22nF
CAP CER 22nF X7R 0805
footprint CAP 0805_2012 (Chip Capacitor, 2-Leads, Body 2.00x1.20mm, IPC Medium Density)
pins: 1, 2

## CAP CER 22PF C0G 0805
designator C?, comment 22pF
CAP CER 22pF C0G 0805; Supplier 1: Makers; Supplier Part Number 1: https://makerselectronics.com/product/multilayer-ceramic-capacitors-mlcc-smd-smt-22pf-%c2%b11-50v-0805; ComponentLink1Description: Makers; ComponentLink1URL: https://makerselectronics.com/product/multilayer-ceramic-capacitors-mlcc-smd-smt-22pf-%c2%b11-50v-0805
footprint CAP 0805_2012 (Chip Capacitor, 2-Leads, Body 2.00x1.20mm, IPC Medium Density)
pins: 1, 2

## CAP CER 47nF X7R 0805
designator C?, comment 47nF
CAP CER 47nF X7R 0805
footprint CAP 0805_2012 (Chip Capacitor, 2-Leads, Body 2.00x1.20mm, IPC Medium Density)
pins: 1, 2

## CAP CER 75PF C0G 0805
designator C?, comment 75pF
CAP CER 75pF C0G 0805
footprint CAP 0805_2012 (Chip Capacitor, 2-Leads, Body 2.00x1.20mm, IPC Medium Density)
pins: 1, 2

## CAP CER 100nF X7R
designator C?, comment 100nF
CAP CER 100nF X7R 1206; Supplier 1: Makers; Supplier Part Number 1: https://makerselectronics.com/product/multilayer-ceramic-capacitors-mlcc-smd-smt-100nf-%c2%b110-100v-x7r-1206; ComponentLink1Description: Makers; ComponentLink1URL: https://makerselectronics.com/product/multilayer-ceramic-capacitors-mlcc-smd-smt-100nf-%c2%b110-100v-x7r-1206
footprint CAP 1206_3216 (Chip Capacitor, 2-Leads, Body 3.25x1.60mm, IPC Medium Density)
pins: 1, 2

## CAP CER 100nF X7R 0805
designator C?, comment 100nF
CAP CER 100nF X7R 0805; Supplier 1: Makers; Supplier Part Number 1: https://makerselectronics.com/product/multilayer-ceramic-capacitors-mlcc-smd-smt-100nf-%c2%b110-100v-x7r-0805; ComponentLink1Description: Makers; ComponentLink1URL: https://makerselectronics.com/product/multilayer-ceramic-capacitors-mlcc-smd-smt-100nf-%c2%b110-100v-x7r-0805
footprint CAP 0805_2012 (Chip Capacitor, 2-Leads, Body 2.00x1.20mm, IPC Medium Density)
pins: 1, 2

## CAP CER 100pF 1KV 0805
designator C?, comment 100pF
CAP CER 100pF ±5% 1KV 0805; Supplier 1: Makers; Supplier Part Number 1: https://makerselectronics.com/product/multilayer-ceramic-capacitors-mlcc-smd-smt-100pf-%c2%b15-1kv-0805; ComponentLink1Description: Makers; ComponentLink1URL: https://makerselectronics.com/product/multilayer-ceramic-capacitors-mlcc-smd-smt-100pf-%c2%b15-1kv-0805
footprint CAP 0805_2012 (Chip Capacitor, 2-Leads, Body 2.00x1.20mm, IPC Medium Density)
pins: 1, 2

## CAP CER 100PF C0G
designator C?, comment 100pF
CAP CER 100pF C0G 1206; Supplier 1: Makers; Supplier Part Number 1: https://makerselectronics.com/product/multilayer-ceramic-capacitors-mlcc-smd-smt-100pf-%c2%b15-50v-1206; ComponentLink1Description: Makers; ComponentLink1URL: https://makerselectronics.com/product/multilayer-ceramic-capacitors-mlcc-smd-smt-100pf-%c2%b15-50v-1206
footprint CAP 1206_3216 (Chip Capacitor, 2-Leads, Body 3.25x1.60mm, IPC Medium Density)
pins: 1, 2

## CAP CER 100PF C0G 0805
designator C?, comment 100pF
CAP CER 100pF C0G 0805; Supplier 1: Makers; Supplier Part Number 1: https://makerselectronics.com/product/multilayer-ceramic-capacitors-mlcc-smd-smt-100pf-%c2%b110-50v-0805; ComponentLink1Description: Makers; ComponentLink1URL: https://makerselectronics.com/product/multilayer-ceramic-capacitors-mlcc-smd-smt-100pf-%c2%b110-50v-0805
footprint CAP 0805_2012 (Chip Capacitor, 2-Leads, Body 2.00x1.20mm, IPC Medium Density)
pins: 1, 2

## CAP CER TH
designator C?, comment 100n
CAP TH CER
footprint CAP TH CER 2.54mm
pins: 1, 2

## CAP FILM 3.3uF
designator C?, comment 3.3uF
CAP FILM P = 25mm; Supplier 1: MAKERS; Supplier Part Number 1: https://makerselectronics.com/product/polyester-capacitor-3-3uf-400v; ComponentLink1Description: MAKERS; ComponentLink1URL: https://makerselectronics.com/product/polyester-capacitor-3-3uf-400v
footprint FILM CAP 25mm Pitch
pins: 1, 2

## CAP FILM 10nF Polyester Capacitor
designator C?, comment 10nF
CAP FILM 10nF Polyester Capacitor; Supplier 1: MAKERS; Supplier Part Number 1: https://makerselectronics.com/product/polyester-capacitor-10nf-100v/; ComponentLink1Description: MAKERS; ComponentLink1URL: https://makerselectronics.com/product/polyester-capacitor-10nf-100v/
footprint FILM Capacitor 10nF 100V
pins: 1, 2

## CAP FILM X 10nF
designator C?, comment X2-CAP
CAP X2 10nF 275V 15mm Through Hole; Supplier 1: MAKERS; Supplier Part Number 1: https://makerselectronics.com/product/suppression-capacitor-10nf-275v-15mm-through-hole; ComponentLink1Description: MAKERS; ComponentLink1URL: https://makerselectronics.com/product/suppression-capacitor-10nf-275v-15mm-through-hole
footprint Capacitor X P=15
pins: 1, 2

## Capacitor 8.2uF 400V
designator C?, comment 8.2uF 400V
CAP ALUM 8.2uF 400V SMD D10xL10; Supplier 1: MAKERS; Supplier Part Number 1: https://makerselectronics.com/product/aluminum-electrolytic-capacitor-smd-8-2uf-400v-%c2%b120-d10xl10-2mm; ComponentLink1Description: MAKERS; ComponentLink1URL: https://makerselectronics.com/product/aluminum-electrolytic-capacitor-smd-8-2uf-400v-%c2%b120-d10xl10-2mm
footprint CAP ALSMD ELEC 10MM H10MM (Aluminum SMD Electrolytic Capacitor, 10.00mm Land Size, 10.00mm Diameter, 10.00mm Height, 12.10mm Maximum Leads Span)
pins: 1, 2

## Capacitor 47uF 16V SMD
designator C?, comment 47uF 16V
CAP ALUM 47uF 16V SMD D5xL5.4; ComponentLink1Description: Makers; ComponentLink1URL: https://makerselectronics.com/product/aluminum-electrolytic-capacitors-smd-47uf-16v-5x5-4mm/
footprint CAP ALSMD ELEC 5.3MM H5.4MM (Aluminum SMD Electrolytic Capacitor, 5.30mm Land Size, 5.00mm Diameter, 5.40mm Height, 5.50mm Maximum Leads Span)
pins: 1, 2

## Capacitor 47uF 25V
designator C?, comment 47uF 25V
CAP ALUM 47uF 25V TH D5xL12; Supplier 1: Makers; Supplier Part Number 1: https://makerselectronics.com/product/capacitor-47uf-25v; ComponentLink1Description: Makers; ComponentLink1URL: https://makerselectronics.com/product/capacitor-47uf-25v
footprint CAP TH ALUM ELEC D5.00mm S2.00mm H12.00mm (5mm Diameter 2mm Lead Spacing Aluminum Electrolytic Capacitors Radial, Can)
pins: 1, 2

## Capacitor 47uF 35V SMD
designator C?, comment 47uF 35V
CAP ALUM 47uF 35V SMD D5xL5.4
footprint CAP ALSMD ELEC 6.6MM H5.4MM (Aluminum SMD Electrolytic Capacitor, 6.60mm Land Size, 6.30mm Diameter, 5.40mm Height, 8.00mm Maximum Leads Span)
pins: 1, 2

## Capacitor 100uF 10V
designator C?, comment 100uF 10V
CAP ALUM 100uF 10V TH D6.5xL11; ComponentLink1Description: Makers; ComponentLink1URL: https://makerselectronics.com/product/capacitor-100uf-10v/
footprint CAP TH ALUM ELEC D6.30mm S2.50mm H11.00mm (6.3mm Diameter 2.5mm Lead Spacing Aluminum Electrolytic Capacitors Radial, Can)
pins: 1, 2

## Capacitor 150uF 400
designator C?, comment 150uF
CAP ALLUM 150uF 400V; Supplier 1: MAKERS; Supplier Part Number 1: https://makerselectronics.com/product/capacitor-150uf-400v/; ComponentLink1Description: MAKERS; ComponentLink1URL: https://makerselectronics.com/product/capacitor-150uf-400v/
footprint CAP TH ALUM ELEC D18.00mm S7.50mm H36.50mm (18mm Diameter 7.5mm Lead Spacing Aluminum Electrolytic Capacitors Radial, Can)
pins: 1, 2

## Capacitor 220UF 16V
designator C?, comment 220UF 16V
CAP ALUM 220UF 16V TH D5xL12; Supplier 1: Makers; Supplier Part Number 1: https://makerselectronics.com/product/capacitor-220uf-16v; ComponentLink1Description: Makers; ComponentLink1URL: https://makerselectronics.com/product/capacitor-220uf-16v
footprint CAP TH ALUM ELEC D5.00mm S2.00mm H12.00mm (5mm Diameter 2mm Lead Spacing Aluminum Electrolytic Capacitors Radial, Can)
pins: 1, 2

## Capacitor 220uF 25V
designator C?, comment 220UF 25V
CAP ALUM 220UF 20% 25V RADIAL TH; Supplier 1: MAKERS; Supplier Part Number 1: https://makerselectronics.com/product/capacitor-220uf-25v/; ComponentLink1Description: MAKERS; ComponentLink1URL: https://makerselectronics.com/product/capacitor-220uf-25v/
footprint CAP TH ALUM ELEC D8.00mm S3.50mm H10.50mm (8mm Diameter 3.5mm Lead Spacing Aluminum Electrolytic Capacitors Radial, Can)
pins: 1, 2

## Capacitor 220uF 450V
designator C?, comment 220uF
CAP ALLUM 220uF 450V; Supplier 1: RAM; Supplier Part Number 1: https://www.ram-e-shop.com/shop/c-220u450v-capacitor-220uf-450v-6820; ComponentLink1Description: RAM; ComponentLink1URL: https://www.ram-e-shop.com/shop/c-220u450v-capacitor-220uf-450v-6820
footprint CAP TH ALUM ELEC D25.00mm S10.00mm H42.00mm (25mm Diameter 10mm Lead Spacing Aluminum Electrolytic Capacitors Radial, Can , Snap-In)
pins: 1, 2

## Capacitor 680uF 450V
designator C?, comment 680uF
CAP ALLUM 680uF 450V
footprint CAP TH ALUM ELEC D35.00mm S10.00mm H52.00mm (35mm Diameter 10mm Lead Spacing Aluminum Electrolytic Capacitors Radial, Can , Snap-In)
pins: 1, 2

## Capacitor 1000uF 25V
designator C?, comment 1000uF 25V
CAP ALUM 1000uF 25V TH D5xL12; Supplier 1: Makers; Supplier Part Number 1: https://makerselectronics.com/product/electrolytic-capacitor-25v-1000uf; ComponentLink1Description: Makers; ComponentLink1URL: https://makerselectronics.com/product/electrolytic-capacitor-25v-1000uf
footprint CAP TH ALUM ELEC D10.00mm S5.00mm H16.00mm (10mm Diameter 5mm Lead Spacing Aluminum Electrolytic Capacitors Radial, Can)
pins: 1, 2

## Capacitor 1000uF 35V
designator C?, comment 1000uF 35V
CAP ALUM 1000uF 35V TH D5xL12; Supplier 1: LCSC; Supplier Part Number 1: C5156477; ComponentLink1Description: Makers; ComponentLink1URL: https://makerselectronics.com/product/capacitor-1000uf-35v/
footprint CAP TH ALUM ELEC D12.50mm S5.00mm H20.00mm (12.5mm Diameter 5mm Lead Spacing Aluminum Electrolytic Capacitors Radial, Can)
pins: 1, 2

## CC0603FRNPO9BN681
designator C?, comment 680 PF
CAP CER 680PF 50V C0G/NPO 0603; Supplier 1: Digikey; Supplier Part Number 1: 311-3905-1-ND; Supplier 2: LCSC; Supplier Part Number 2: C519566; Supplier 3: Digikey; Supplier Part Number 3: 1276-6552-1-ND; Supplier 4: LCSC; Supplier Part Number 4: C472800
footprint CAP 0603_1608 (Chip Capacitor, 2-Leads, Body 1.60x0.80mm, IPC Medium Density)
pins: 1, 2

## CC0603JRNPO9BN101
designator C?, comment 100pF
CAP CER 100PF 50V C0G/NP0 0603; Supplier 1: DigiKey; Supplier Part Number 1: 311-1069-1-ND; Supplier 2: LCSC; Supplier Part Number 2: C14665; Supplier 3: Digikey; Supplier Part Number 3: 490-4771-1-ND; Supplier 4: LCSC; Supplier Part Number 4: C126576
footprint CAP 0603_1608 (Chip Capacitor, 2-Leads, Body 1.60x0.80mm, IPC Medium Density)
pins: 1, 2

## CC0603JRNPO9BN750
designator C?, comment 75pF
CAP CER 75PF 50V C0G/NPO 0603; Supplier 1: DigiKey; Supplier Part Number 1: 311-3975-1-ND; Supplier 2: LCSC; Supplier Part Number 2: C282074
footprint CAP 0603_1608 (Chip Capacitor, 2-Leads, Body 1.60x0.80mm, IPC Medium Density)
pins: 1, 2

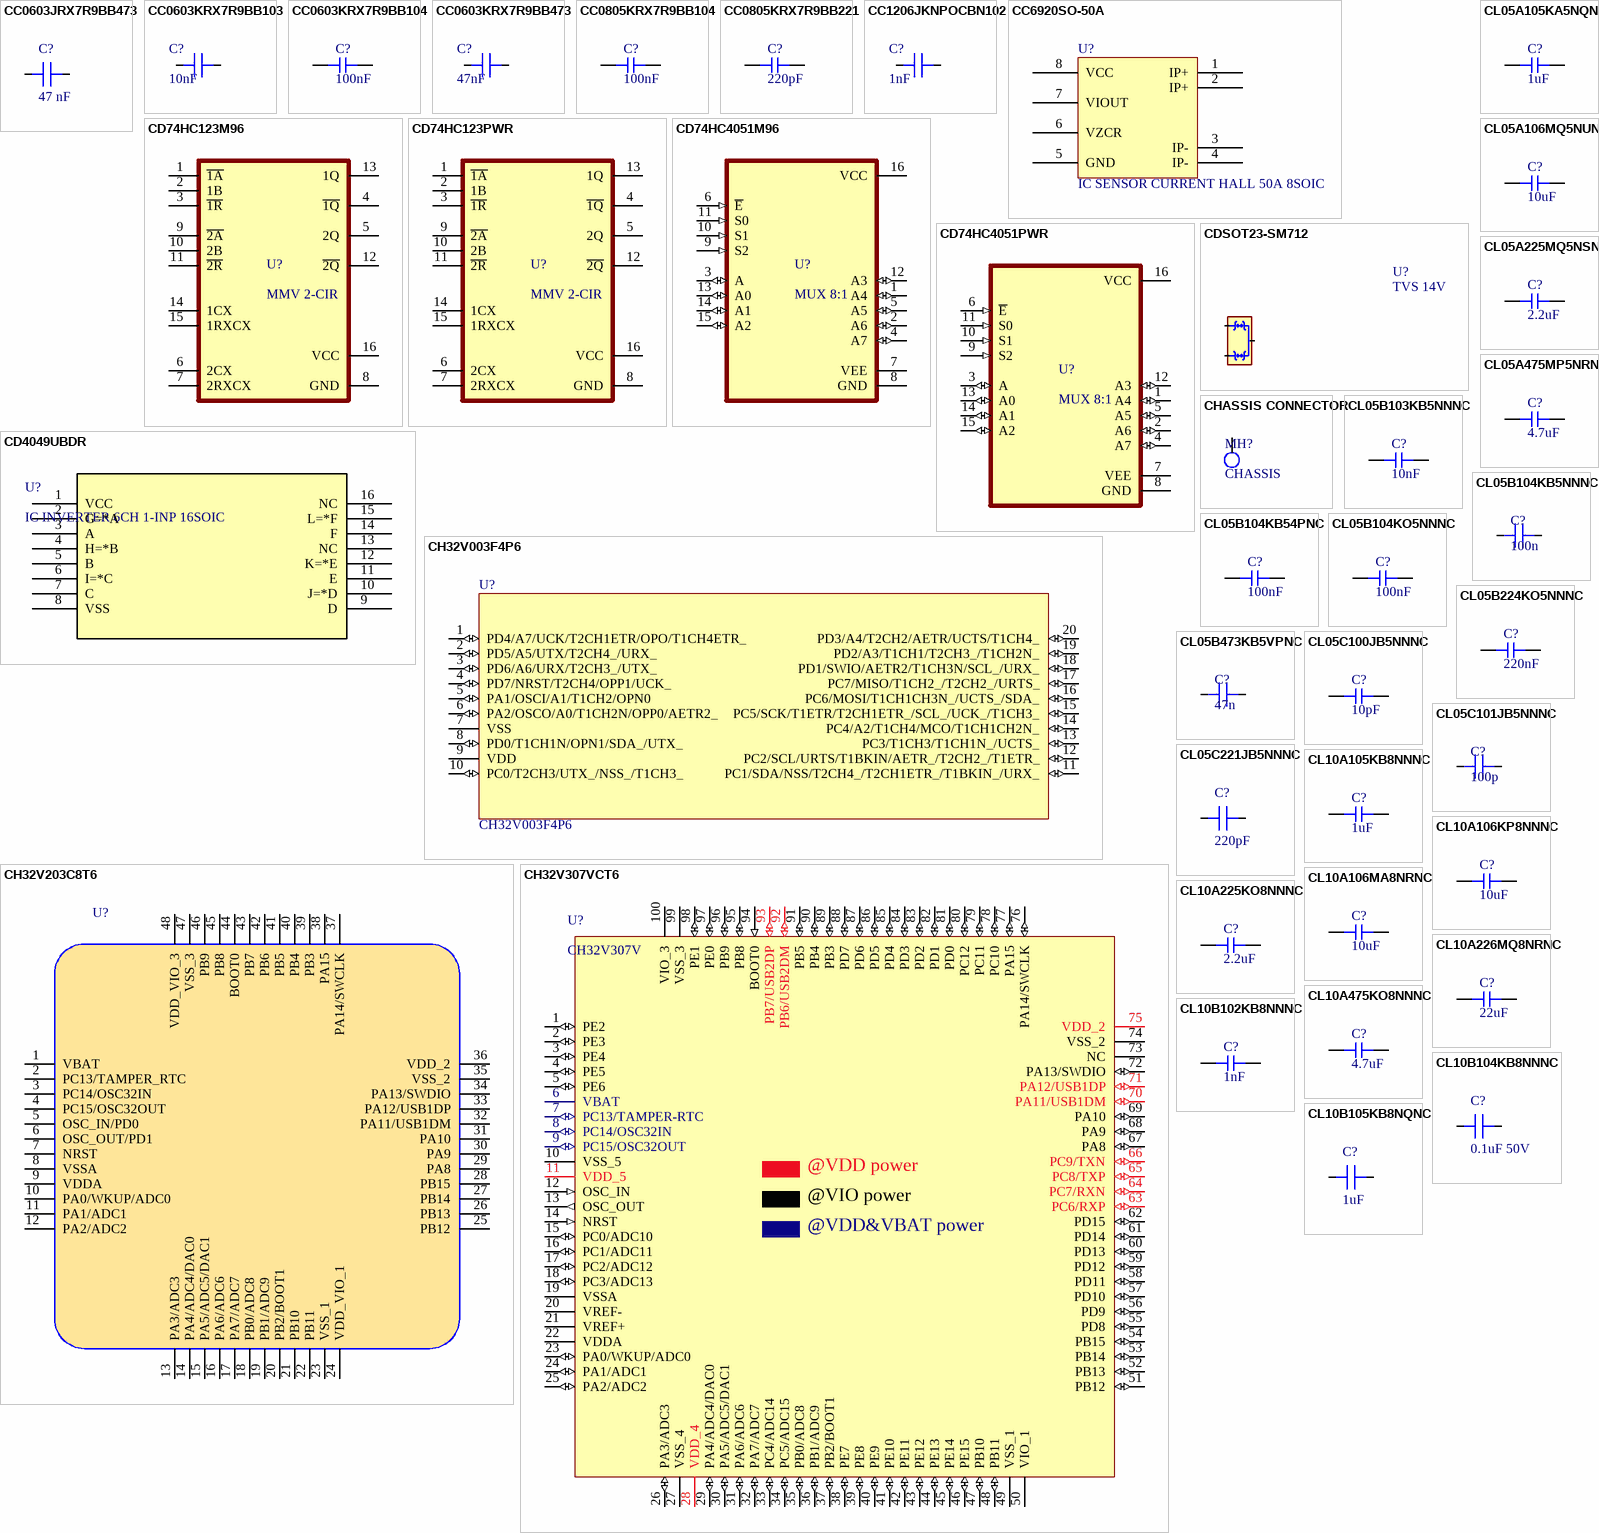
[diagram p9: symbols CC0603JRX7R9BB473 to CL10B105KB8NQNC]

## CC0603JRX7R9BB473
designator C?, comment 47 nF
CAP CER 0.047UF 50V X7R 0603; Supplier 1: Digikey; Supplier Part Number 1: 311-4019-1-ND; Supplier 2: LCSC; Supplier Part Number 2: C519554; Supplier 3: Digikey; Supplier Part Number 3: 1276-1063-1-ND; Supplier 4: LCSC; Supplier Part Number 4: C1622
footprint CAP 0603_1608 (Chip Capacitor, 2-Leads, Body 1.60x0.80mm, IPC Medium Density)
pins: 1, 2

## CC0603KRX7R9BB103
designator C?, comment 10nF
CAP CER 10000PF 50V X7R 0603; Supplier 1: Digikey; Supplier Part Number 1: 311-1085-1-ND; Supplier 2: LCSC; Supplier Part Number 2: C100042; Supplier 3: Digikey; Supplier Part Number 3: 1276-1009-1-ND; Supplier 4: LCSC; Supplier Part Number 4: C1589
footprint CAP 0603_1608 (Chip Capacitor, 2-Leads, Body 1.60x0.80mm, IPC Medium Density)
pins: 1, 2

## CC0603KRX7R9BB104
designator C?  Capacitance: 100nF  (hidden comment: *)
Capacitor, Ceramic (MLCC), 100nF, ±10%, 50V, X7R, ±10%, SMD 0603; Manufacturer: YAGEO; Manufacturer Part Number: CC0603KRX7R9BB104; Package Size: 0603; JLCPCB Basic Part: Yes; JLCPCB Part Number: C14663; Supplier 1: LCSC; Category: Capacitors - MLCC; Supplier Part Number 1: C14663; Tolerance: ±10%; Voltage Rating: 50V; Temperature Coefficient: X7R; RoHS: Yes; ComponentLink1Description: Datasheet; ComponentLink1URL: https://wmsc.lcsc.com/wmsc/upload/file/pdf/v2/lcsc/2211101700_YAGEO-CC0603KRX7R9BB104_C14663.pdf; ComponentLink2Description: JLCPCB Part URL; ComponentLink2URL: https://jlcpcb.com/partdetail/C14663; ComponentLink3Description: LCSC Part URL; ComponentLink3URL: https://lcsc.com/product-detail/Multilayer-Ceramic-Capacitors-MLCC---SMD-SMT_YAGEO-YAGEO-CC0603KRX7R9BB104_C14663.html
footprint CAP-0603 (0603 (1608M) Capacitor)
pins: 1, 2

## CC0603KRX7R9BB473
designator C?, comment 47nF
CAP CER 0.047UF 50V X7R 0603; Supplier 1: Digikey; Supplier Part Number 1: 311-1427-1-ND; Supplier 2: LCSC; Supplier Part Number 2: C107093; Supplier 3: Digikey; Supplier Part Number 3: 1276-1063-1-ND; Supplier 4: LCSC; Supplier Part Number 4: C1622
footprint CAP 0603_1608 (Chip Capacitor, 2-Leads, Body 1.60x0.80mm, IPC Medium Density)
pins: 1, 2

## CC0805KRX7R9BB104
designator C?  Capacitance: 100nF  (hidden comment: *)
Capacitor, Ceramic (MLCC), 100nF, ±10%, 50V, X7R, ±10%, SMD 0805; Manufacturer: YAGEO; Manufacturer Part Number: CC0805KRX7R9BB104; Package Size: 0805; JLCPCB Basic Part: Yes; JLCPCB Part Number: C49678; Supplier 1: LCSC; Category: Capacitors - MLCC; Supplier Part Number 1: C49678; Tolerance: ±10%; Voltage Rating: 50V; Temperature Coefficient: X7R; RoHS: Yes; ComponentLink1Description: Datasheet; ComponentLink1URL: https://wmsc.lcsc.com/wmsc/upload/file/pdf/v2/lcsc/2304140030_YAGEO-CC0805KRX7R9BB104_C49678.pdf; ComponentLink2Description: JLCPCB Part URL; ComponentLink2URL: https://jlcpcb.com/partdetail/C49678; ComponentLink3Description: LCSC Part URL; ComponentLink3URL: https://lcsc.com/product-detail/Multilayer-Ceramic-Capacitors-MLCC---SMD-SMT_YAGEO-YAGEO-CC0805KRX7R9BB104_C49678.html
footprint CAP-0805 (0805 (2012M) Capacitor)
pins: 1, 2

## CC0805KRX7R9BB221
designator C?  Capacitance: 220pF  (hidden comment: *)
Capacitor, Ceramic (MLCC), 220pF, ±10%, 50V, X7R, ±10%, SMD 0805; Manufacturer: YAGEO; Manufacturer Part Number: CC0805KRX7R9BB221; Package Size: 0805; JLCPCB Basic Part: Yes; JLCPCB Part Number: C107145; Supplier 1: LCSC; Category: Capacitors - MLCC; Supplier Part Number 1: C107145; Tolerance: ±10%; Voltage Rating: 50V; Temperature Coefficient: X7R; RoHS: Yes; ComponentLink1Description: Datasheet; ComponentLink1URL: https://wmsc.lcsc.com/wmsc/upload/file/pdf/v2/lcsc/2304140030_YAGEO-CC0805KRX7R9BB221_C107145.pdf; ComponentLink2Description: JLCPCB Part URL; ComponentLink2URL: https://jlcpcb.com/partdetail/C107145; ComponentLink3Description: LCSC Part URL; ComponentLink3URL: https://lcsc.com/product-detail/Multilayer-Ceramic-Capacitors-MLCC---SMD-SMT_YAGEO-YAGEO-CC0805KRX7R9BB221_C107145.html
footprint CAP-0805 (0805 (2012M) Capacitor)
pins: 1, 2

## CC1206JKNPOCBN102
designator C?, comment 1nF
CAP CER 1000PF 1KV X7R 1206; Supplier 3: Digikey; Supplier Part Number 3: 311-1144-1-ND; Supplier 4: LCSC; Supplier Part Number 4: C107191; Supplier 1: Digikey; Supplier Part Number 1: 490-3494-1-ND; Supplier 2: LCSC; Supplier Part Number 2: C97941
footprint CAP 1206_3216 (Chip Capacitor, 2-Leads, Body 3.25x1.60mm, IPC Medium Density)
pins: 1, 2

## CC6920SO-50A
designator U?, comment IC SENSOR CURRENT HALL 50A 8SOIC
IC Current Sensor 50A 1 Channel Hall Effect, Open Loop Bidirectional 8-SOIC (0.154", 3.90mm Width); Supplier 2: LCSC; Supplier Part Number 2: C2760493
footprint SOIC 8 ACS71240
pins: 1 IP+, 2 IP+, 3 IP-, 4 IP-, 5 GND, 6 VZCR, 7 VIOUT, 8 VCC

## CD74HC123M96
designator U?, comment MMV 2-CIR
IC Monostable Multivibrator 25 ns 16-SOIC; Supplier 1: DigiKey; Supplier Part Number 1: 296-14508-1-ND; Supplier 2: LCSC; Supplier Part Number 2: C133784
footprint SOIC-16 TI W3.9MM
pins: 1 ~{1A} (power), 2 1B (power), 3 ~{1R} (power), 4 ~{1Q}, 5 2Q, 6 2CX (power), 7 2RXCX (power), 8 GND, 9 ~{2A} (power), 10 2B (power), 11 ~{2R} (power), 12 ~{2Q}, 13 1Q, 14 1CX (power), 15 1RXCX (power), 16 VCC

## CD74HC123PWR
designator U?, comment MMV 2-CIR
IC Monostable Multivibrator 25 ns 16-TSSOP; Supplier 1: DigiKey; Supplier Part Number 1: 296-12780-1-ND; Supplier 2: LCSC; Supplier Part Number 2: C352823
footprint TSSOP-16 TI
pins: 1 ~{1A} (power), 2 1B (power), 3 ~{1R} (power), 4 ~{1Q}, 5 2Q, 6 2CX (power), 7 2RXCX (power), 8 GND, 9 ~{2A} (power), 10 2B (power), 11 ~{2R} (power), 12 ~{2Q}, 13 1Q, 14 1CX (power), 15 1RXCX (power), 16 VCC

## CD74HC4051M96
designator U?, comment MUX 8:1
IC MUX/DEMUX 1 Circuit IC Switch 8:1 130Ohm 16-SOIC16 3.9MM; Supplier 1: DigiKey; Supplier Part Number 1: 296-14530-1-ND; Supplier 2: LCSC; Supplier Part Number 2: C132065
footprint SOIC-16 TI W3.9MM
pins: 1 A4 (io), 2 A6 (io), 3 A (io), 4 A7 (io), 5 A5 (io), 6 ~{E} (in), 7 VEE (power), 8 GND (power), 9 S2 (in), 10 S1 (in), 11 S0 (in), 12 A3 (io), 13 A0 (io), 14 A1 (io), 15 A2 (io), 16 VCC (power)

## CD74HC4051PWR
designator U?, comment MUX 8:1
IC MUX/DEMUX 1 Circuit IC Switch 8:1 130Ohm 16-TSSOP; Supplier 1: DigiKey; Supplier Part Number 1: 296-13031-1-ND; Supplier 2: LCSC; Supplier Part Number 2: C352826
footprint TSSOP-16 TI
pins: 1 A4 (io), 2 A6 (io), 3 A (io), 4 A7 (io), 5 A5 (io), 6 ~{E} (in), 7 VEE (power), 8 GND (power), 9 S2 (in), 10 S1 (in), 11 S0 (in), 12 A3 (io), 13 A0 (io), 14 A1 (io), 15 A2 (io), 16 VCC (power)

## CD4049UBDR
designator U?, comment IC INVERTER 6CH 1-INP 16SOIC
IC Inverter 6 Channel 16-SOIC; ComponentLink1Description: DIGIKEY; ComponentLink1URL: https://www.digikey.com/en/products/detail/texas-instruments/CD4049UBDR/3505785?curr=usd&utm_campaign=buynow&utm_medium=aggregator&utm_source=octopart; ComponentLink2Description: LCSC; ComponentLink2URL: https://www.lcsc.com/product-detail/Inverters_Texas-Instruments-CD4049UBDR_C22429.html?utm_source=octopart&utm_medium=cpc&utm_campaign=CD4049UBDR; Supplier 1: Digikey; Supplier Part Number 1: 296-31502-1-ND; Supplier 2: LCSC; Supplier Part Number 2: C22429; Supplier 3: Digikey; Supplier Part Number 3: 1727-6409-1-ND; Supplier 4: LCSC; Supplier Part Number 4: C513218
footprint SOIC-16 CD4049UBDR
pins: 1 VCC (power), 2 G=*A, 3 A, 4 H=*B, 5 B, 6 I=*C, 7 C, 8 VSS (power), 9 D, 10 J=*D, 11 E, 12 K=*E, 13 NC, 14 F, 15 L=*F, 16 NC

## CDSOT23-SM712
designator U?, comment TVS 14V
DIODE TVS 26V, 14V Clamp 17A SOT23  Special for RS485; Supplier 1: DigiKey; Supplier Part Number 1: CDSOT23-SM712DKR-ND; Supplier 2: LCSC; Supplier Part Number 2: C404012
footprint SOT23-3 (SOT23-3, BAT54, DIODES INC)
pins: 1, 2, 3

## CH32V003F4P6
designator U?
IC CPU RISC-V MCU, 48MHz
footprint TSSOP20
pins: 1 PD4/A7/UCK/T2CH1ETR/OPO/T1CH4ETR_ (io), 2 PD5/A5/UTX/T2CH4_/URX_ (io), 3 PD6/A6/URX/T2CH3_/UTX_ (io), 4 PD7/NRST/T2CH4/OPP1/UCK_ (io), 5 PA1/OSCI/A1/T1CH2/OPN0 (io), 6 PA2/OSCO/A0/T1CH2N/OPP0/AETR2_ (io), 7 VSS (power), 8 PD0/T1CH1N/OPN1/SDA_/UTX_ (io), 9 VDD (power), 10 PC0/T2CH3/UTX_/NSS_/T1CH3_ (io), 11 PC1/SDA/NSS/T2CH4_/T2CH1ETR_/T1BKIN_/URX_ (io), 12 PC2/SCL/URTS/T1BKIN/AETR_/T2CH2_/T1ETR_ (io), 13 PC3/T1CH3/T1CH1N_/UCTS_ (io), 14 PC4/A2/T1CH4/MCO/T1CH1CH2N_ (io), 15 PC5/SCK/T1ETR/T2CH1ETR_/SCL_/UCK_/T1CH3_ (io), 16 PC6/MOSI/T1CH1CH3N_/UCTS_/SDA_ (io), 17 PC7/MISO/T1CH2_/T2CH2_/URTS_ (io), 18 PD1/SWIO/AETR2/T1CH3N/SCL_/URX_ (io), 19 PD2/A3/T1CH1/T2CH3_/T1CH2N_ (io), 20 PD3/A4/T2CH2/AETR/UCTS/T1CH4_ (io)

## CH32V203C8T6
designator U?
IC CPU Core:RISC-V Program Storage Size:64KB RAM Size:20KB GPIO Ports Number:- Operating Voltage Range:- Operating Voltage Range:- CPU Maximum Speed:144MHz Program Memory Type:FLASH Operating Temperature Range:- Operating Temperature Range:- ADC (Bit):- DAC; Supplier 1: LCSC; Supplier Part Number 1: C3001172
footprint LQFP48 CH32V203C8T
pins: 1 VBAT, 2 PC13/TAMPER_RTC, 3 PC14/OSC32IN, 4 PC15/OSC32OUT, 5 OSC_IN/PD0, 6 OSC_OUT/PD1, 7 NRST, 8 VSSA, 9 VDDA, 10 PA0/WKUP/ADC0, 11 PA1/ADC1, 12 PA2/ADC2, 13 PA3/ADC3, 14 PA4/ADC4/DAC0, 15 PA5/ADC5/DAC1, 16 PA6/ADC6, 17 PA7/ADC7, 18 PB0/ADC8, 19 PB1/ADC9, 20 PB2/BOOT1, 21 PB10, 22 PB11, 23 VSS_1, 24 VDD_VIO_1, 25 PB12, 26 PB13, 27 PB14, 28 PB15, 29 PA8, 30 PA9, 31 PA10, 32 PA11/USB1DM, 33 PA12/USB1DP, 34 PA13/SWDIO, 35 VSS_2, 36 VDD_2, 37 PA14/SWCLK, 38 PA15, 39 PB3, 40 PB4, 41 PB5, 42 PB6, 43 PB7, 44 BOOT0, 45 PB8, 46 PB9, 47 VSS_3, 48 VDD_VIO_3

## CH32V307VCT6
designator U?, comment CH32V307V
IC RISC-V FPU HD-MCU, 144MHz, USB_480M, USB OTG, 1000M Ethernet MAC, 2*CAN, FSMC+DVP; Supplier 1: LCSC; Supplier Part Number 1: C2943979
footprint LQFP-100
pins: 1 PE2 (io), 2 PE3 (io), 3 PE4 (io), 4 PE5 (io), 5 PE6 (io), 6 VBAT (power), 7 PC13/TAMPER-RTC (io), 8 PC14/OSC32IN (io), 9 PC15/OSC32OUT (io), 10 VSS_5 (power), 11 VDD_5 (power), 12 OSC_IN (in), 13 OSC_OUT (out), 14 NRST (in), 15 PC0/ADC10 (io), 16 PC1/ADC11 (io), 17 PC2/ADC12 (io), 18 PC3/ADC13 (io), 19 VSSA (power), 20 VREF- (power), 21 VREF+ (power), 22 VDDA (power), 23 PA0/WKUP/ADC0 (io), 24 PA1/ADC1 (io), 25 PA2/ADC2 (io), 26 PA3/ADC3 (io), 27 VSS_4 (power), 28 VDD_4 (power), 29 PA4/ADC4/DAC0 (io), 30 PA5/ADC5/DAC1 (io), 31 PA6/ADC6 (io), 32 PA7/ADC7 (io), 33 PC4/ADC14 (io), 34 PC5/ADC15 (io), 35 PB0/ADC8 (io), 36 PB1/ADC9 (io), 37 PB2/BOOT1 (io), 38 PE7 (io), 39 PE8 (io), 40 PE9 (io), 41 PE10 (io), 42 PE11 (io), 43 PE12 (io), 44 PE13 (io), 45 PE14 (io), 46 PE15 (io), 47 PB10 (io), 48 PB11 (io), 49 VSS_1 (power), 50 VIO_1 (power), 51 PB12 (io), 52 PB13 (io), 53 PB14 (io), 54 PB15 (io), 55 PD8 (io), 56 PD9 (io), 57 PD10 (io), 58 PD11 (io), 59 PD12 (io), 60 PD13 (io), 61 PD14 (io), 62 PD15 (io), 63 PC6/RXP (io), 64 PC7/RXN (io), 65 PC8/TXP (io), 66 PC9/TXN (io), 67 PA8 (io), 68 PA9 (io), 69 PA10 (io), 70 PA11/USB1DM (io), 71 PA12/USB1DP (io), 72 PA13/SWDIO (io), 73 NC (hiz), 74 VSS_2 (power), 75 VDD_2 (power), 76 PA14/SWCLK (io), 77 PA15 (io), 78 PC10 (io), 79 PC11 (io), 80 PC12 (io), 81 PD0 (io), 82 PD1 (io), 83 PD2 (io), 84 PD3 (io), 85 PD4 (io), 86 PD5 (io), 87 PD6 (io), 88 PD7 (io), 89 PB3 (io), 90 PB4 (io), 91 PB5 (io), 92 PB6/USB2DM (io), 93 PB7/USB2DP (io), 94 BOOT0 (in), 95 PB8 (io), 96 PB9 (io), 97 PE0 (io), 98 PE1 (io), 99 VSS_3 (power), 100 VIO_3 (power)
text: @VDD power; @VIO power; @VDD&VBAT power

## CHASSIS CONNECTOR
designator MH?, comment CHASSIS  (no BOM)
MOUNTING HOLE CHASSIS CONNECTION
footprint MTHP 5.5 3.7MM
pins: 1